# Altium footprint library PcbLib1.PcbLib: 6 footprints
Each footprint in its own frame and in the unit in brackets; x right, y up, seen from the top. Pads: shape width x height; smd on the part's side, far side on the other; paste and mask are expansions set on the pad; w line width, h text height; cw(c..) or ccw(c..) is an arc to the next point about the centre after c.
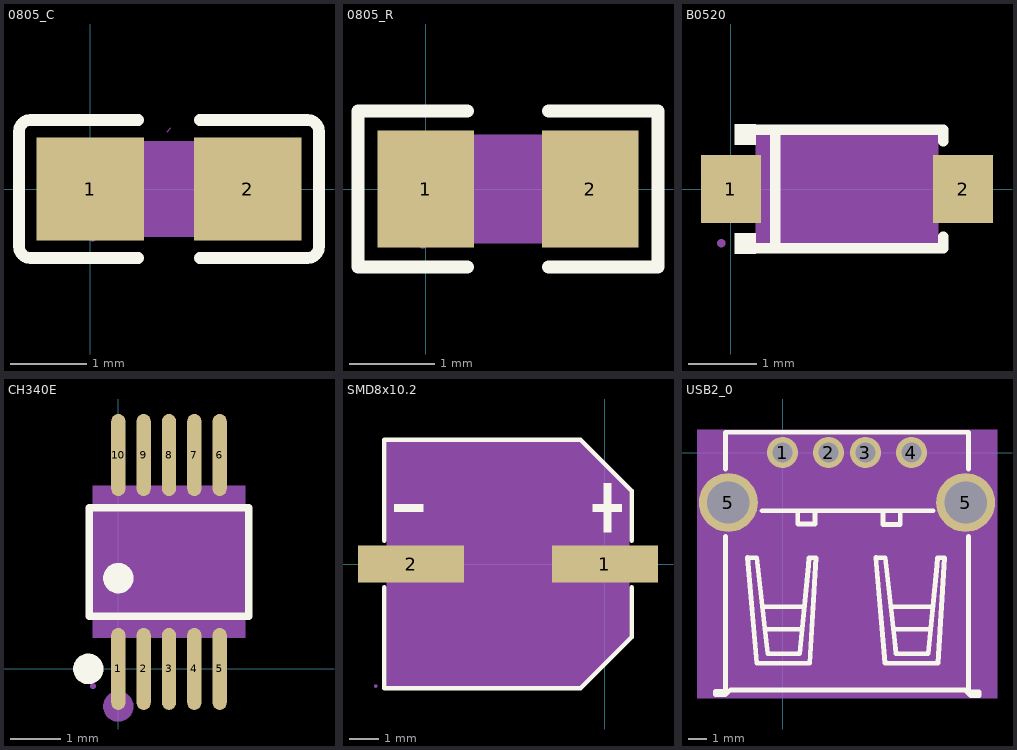
[diagram p0: the footprints below, top view; thin cyan lines are the x and y axes]

## 0805_C [mm]
pads (2):
  rect 1.41x1.35 smd: 1(0,0) 2(2.06,0)
Top Overlay:
  lines w0.152: 0.629,-0.904 -0.781,-0.904 cw(c-0.781,-0.751) -0.934,-0.751 -0.934,0.751 cw(c-0.781,0.751) -0.781,0.904 0.629,0.904 ; 1.431,-0.904 2.841,-0.904 ccw(c2.841,-0.751) 2.994,-0.751 2.994,0.751 ccw(c2.841,0.751) 2.841,0.904 1.431,0.904
Top Paste:
  region: 1.323,-0.216 1.323,0.216 1.802,0.675 2.665,0.675 2.765,0.575 2.765,-0.575 2.665,-0.675 1.802,-0.675
  region: 0.737,-0.216 0.737,0.216 0.258,0.675 -0.605,0.675 -0.705,0.575 -0.705,-0.575 -0.605,-0.675 0.258,-0.675
Mechanical 4:
  region: 0.03,-0.625 0.03,0.625 2.03,0.625 2.03,-0.625
Mechanical 5:
  region: 0.03,-0.625 0.03,0.625 0.48,0.625 0.48,-0.625
  region: 2.03,-0.625 2.03,0.625 1.58,0.625 1.58,-0.625
Mechanical 6:
  circle w0.06: c0.03,-0.625 r0.03
Mechanical 15:
  lines w0.003: 1.005,0.752 1.055,0.803

## 0805_R [mm]
pads (2):
  rect 1.133x1.377 smd: 1(0,0) 2(1.933,0)
Top Overlay:
  lines w0.152: 0.49,-0.917 -0.795,-0.917 -0.795,0.917 0.49,0.917 ; 1.442,-0.917 2.727,-0.917 2.727,0.917 1.442,0.917
Top Paste:
  region: 1.326,-0.22 1.326,0.22 1.711,0.688 2.399,0.688 2.499,0.588 2.499,-0.588 2.399,-0.688 1.711,-0.688
  region: 0.606,-0.22 0.606,0.22 0.221,0.688 -0.466,0.688 -0.566,0.588 -0.566,-0.588 -0.466,-0.688 0.221,-0.688
Mechanical 4:
  region: -0.034,-0.637 -0.034,0.637 1.966,0.637 1.966,-0.637
Mechanical 5:
  region: -0.034,-0.637 -0.034,0.637 0.366,0.637 0.366,-0.637
  region: 1.966,-0.637 1.966,0.637 1.566,0.637 1.566,-0.637
Mechanical 6:
  circle w0.06: c-0.034,-0.638 r0.03
Mechanical 15:
  lines w0.003: 0.941,0.399 0.992,0.45

## B0520 [mm]
pads (2):
  rect 0.88x0.99 smd: 1(0,0) 2(3.385,0)
Top Overlay:
  region: 0.363,-0.942 0.363,-0.647 0.058,-0.647 0.058,-0.942
  region: 0.363,0.942 0.363,0.647 0.058,0.647 0.058,0.942
  lines w0.152: 0.286,-0.866 3.099,-0.866 3.099,-0.698 ; 0.286,0.866 3.099,0.866 3.099,0.698 ; 0.643,-0.866 0.643,0.866
Mechanical 4:
  region: 0.363,-0.79 0.363,0.79 3.022,0.79 3.022,-0.79
Mechanical 5:
  region: 3.525,-0.465 3.525,0.465 2.975,0.465 2.975,-0.465
  region: -0.14,-0.465 -0.14,0.465 0.41,0.465 0.41,-0.465
Mechanical 6:
  circle w0.06: c-0.14,-0.79 r0.03
Mechanical 15:
  region: 2.549,0.632 2.549,-0.632 2.359,-0.632 2.359,0.632
  region: 2.833,0.095 2.833,-0.095 2.074,-0.095 2.074,0.095
  region: 0.552,0.095 0.552,-0.095 1.311,-0.095 1.311,0.095

## CH340E [mm]
pads (10):
  oval 0.28x1.62 smd: 1(0,0) 2(0.5,0) 3(1,0) 4(1.5,0) 5(2,0) 6(2,4.22) 7(1.5,4.22) 8(1,4.22) 9(0.5,4.22) 10(0,4.22)
Top Overlay:
  circle w0.3: c0,1.791 r0.15
  circle w0.3: c-0.592,0 r0.15
  lines w0.152: -0.576,1.039 -0.576,3.181 2.576,3.181 2.576,1.039 -0.576,1.039
Mechanical 4:
  region: -0.5,0.61 -0.5,3.61 2.5,3.61 2.5,0.61
Mechanical 5:
  region: -0.112,-0.34 -0.112,0.21 0.112,0.21 0.112,-0.34
  pour cut-out: -0.112,0.2 -0.112,0.62 0.112,0.62 0.112,0.2
  region: 0.388,-0.34 0.388,0.21 0.612,0.21 0.612,-0.34
  pour cut-out: 0.388,0.2 0.388,0.62 0.612,0.62 0.612,0.2
  region: 0.888,-0.34 0.888,0.21 1.112,0.21 1.112,-0.34
  pour cut-out: 0.888,0.2 0.888,0.62 1.112,0.62 1.112,0.2
  region: 1.388,-0.34 1.388,0.21 1.612,0.21 1.612,-0.34
  pour cut-out: 1.388,0.2 1.388,0.62 1.612,0.62 1.612,0.2
  region: 1.887,-0.34 1.887,0.21 2.112,0.21 2.112,-0.34
  pour cut-out: 1.887,0.2 1.887,0.62 2.112,0.62 2.112,0.2
  region: -0.112,4.56 -0.112,4.01 0.112,4.01 0.112,4.56
  pour cut-out: -0.112,4.02 -0.112,3.6 0.112,3.6 0.112,4.02
  region: 0.388,4.56 0.388,4.01 0.612,4.01 0.612,4.56
  pour cut-out: 0.388,4.02 0.388,3.6 0.612,3.6 0.612,4.02
  region: 0.888,4.56 0.888,4.01 1.112,4.01 1.112,4.56
  pour cut-out: 0.888,4.02 0.888,3.6 1.112,3.6 1.112,4.02
  region: 1.388,4.56 1.388,4.01 1.612,4.01 1.612,4.56
  pour cut-out: 1.388,4.02 1.388,3.6 1.612,3.6 1.612,4.02
  region: 1.887,4.56 1.887,4.01 2.112,4.01 2.112,4.56
  pour cut-out: 1.887,4.02 1.887,3.6 2.112,3.6 2.112,4.02
Mechanical 6:
  circle w0.06: c-0.5,-0.34 r0.03
Mechanical 15:
  circle w0.3: c0,-0.74 r0.15

## SMD8x10.2 [mm]
pads (2):
  rect 3.61x1.26 smd: 1(0,0) 2(-6.59,0)
Top Overlay:
  region: -7.171,1.785 -7.171,2.033 -6.175,2.033 -6.175,1.785
  region: 0.581,1.785 0.581,2.033 -0.415,2.033 -0.415,1.785
  region: 0.208,1.079 0.208,2.739 -0.041,2.739 -0.041,1.079
  lines w0.152: -7.496,-0.782 -7.496,-4.226 -0.83,-4.226 0.906,-2.49 0.906,-0.782 ; -7.496,0.782 -7.496,4.226 -0.83,4.226 0.906,2.49 0.906,0.782
Mechanical 4:
  region: -7.42,-4.15 -7.42,4.15 -0.83,4.15 0.83,2.49 0.83,-2.49 -0.83,-4.15
Mechanical 5:
  region: -7.795,-0.45 -7.795,0.45 -4.845,0.45 -4.845,-0.45
  region: 1.205,-0.45 1.205,0.45 -1.745,0.45 -1.745,-0.45
Mechanical 6:
  circle w0.06: c-7.795,-4.15 r0.03
Mechanical 15:
  region: -7.171,-0.125 -7.171,0.125 -6.175,0.125 -6.175,-0.125
  region: 0.581,-0.125 0.581,0.125 -0.415,0.125 -0.415,-0.125
  region: 0.208,-0.83 0.208,0.83 -0.041,0.83 -0.041,-0.83

## USB2_0 [mm]
pads (6):
  round 1.7 hole 1.1: 1(0,0) 2(2.499,0) 3(4.501,0) 4(7,0)
  round 3.2 hole 2.3: 5(-2.95,-2.72) 5(9.95,-2.72)
Top Overlay:
  lines w0.254: -3.13,-12.99 -3.65,-12.99 -3.65,-13.17 -3.11,-13.17 -2.85,-12.91 9.91,-12.91 10.22,-13.22 10.69,-13.22 10.69,-13.02 10.06,-13.02 ; -3.1,-12.99 -3.1,-4.549 ; -3.1,-0.891 -3.1,1.1 10.1,1.1 10.1,-0.891 ; -1.12,-3.16 8.181,-3.16 ; -1.099,-8.391 1.161,-8.391 ; -0.959,-9.601 1.071,-9.601 ; 0.83,-3.209 0.83,-3.889 1.759,-3.889 1.759,-3.219 ; 5.46,-3.23 5.46,-3.91 6.39,-3.91 6.39,-3.24 ; 5.882,-8.391 8.142,-8.391 ; 6.022,-9.601 8.052,-9.601 ; 10.1,-13.055 10.1,-4.549 ; -1.909,-5.711 -1.414,-11.446 1.469,-11.457 1.819,-5.714 1.439,-5.714 1.409,-6.144 0.935,-10.923 -0.815,-10.933 -0.89,-10.255 -1.4,-5.715 -1.909,-5.711 ; 5.072,-5.711 5.567,-11.446 8.45,-11.457 8.8,-5.714 8.42,-5.714 8.39,-6.144 7.916,-10.923 6.166,-10.933 6.091,-10.255 5.581,-5.715 5.072,-5.711
Mechanical 4:
  region: -4.653,1.227 11.654,1.227 11.654,-13.347 -4.653,-13.347
Mechanical 5:
  region: 6.15,0.85 7.85,0.85 7.85,-0.85 6.15,-0.85
  region: 3.651,0.85 5.351,0.85 5.351,-0.85 3.651,-0.85
  region: 1.649,0.85 3.349,0.85 3.349,-0.85 1.649,-0.85
  region: -0.85,0.85 0.85,0.85 0.85,-0.85 -0.85,-0.85
  region: -4.55,-1.12 -1.35,-1.12 -1.35,-4.32 -4.55,-4.32
  region: 8.35,-1.12 11.55,-1.12 11.55,-4.32 8.35,-4.32